# EAGLE library part ATTINY1634 (library solderstation)
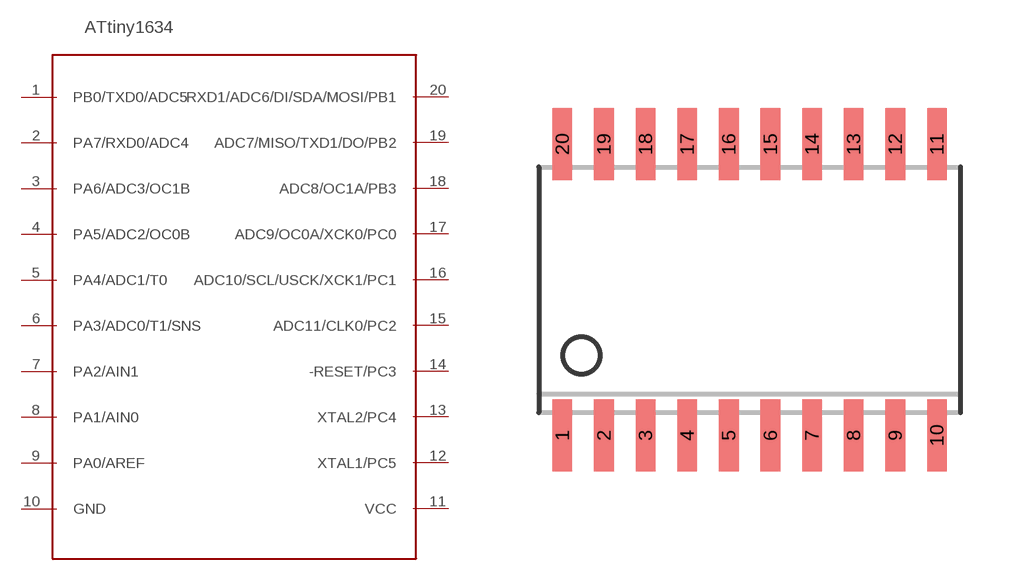
[diagram p0: symbol with the pads of SOIC20; footprint SOIC20]

Designator prefix -

## ATTINY1634  [SOIC20]
1  PB0/TXD0/ADC5
2  PA7/RXD0/ADC4
3  PA6/ADC3/OC1B
4  PA5/ADC2/OC0B
5  PA4/ADC1/T0
6  PA3/ADC0/T1/SNS
7  PA2/AIN1
8  PA1/AIN0
9  PA0/AREF
10  GND  pwr
11  VCC  pwr
12  XTAL1/PC5
13  XTAL2/PC4
14  -RESET/PC3
15  ADC11/CLK0/PC2
16  ADC10/SCL/USCK/XCK1/PC1
17  ADC9/OC0A/XCK0/PC0
18  ADC8/OC1A/PB3
19  ADC7/MISO/TXD1/DO/PB2
20  RXD1/ADC6/DI/SDA/MOSI/PB1

## Footprint SOIC20 (pad centres in mm)
smd 0.6 x 2.2: 1 -1.905,-4.445; 2 -0.635,-4.445; 3 0.635,-4.445; 4 1.905,-4.445; 5 3.175,-4.445; 6 4.445,-4.445; 7 5.715,-4.445; 8 6.985,-4.445; 9 8.255,-4.445; 10 9.525,-4.445; 11 9.525,4.445; 12 8.255,4.445; 13 6.985,4.445; 14 5.715,4.445; 15 4.445,4.445; 16 3.175,4.445; 17 1.905,4.445; 18 0.635,4.445; 19 -0.635,4.445; 20 -1.905,4.445